# Altium schematic symbol library transistor-power.SCHLIB: 100 symbols
Pins are listed as number, name and electrical type; pins without a type are passive.

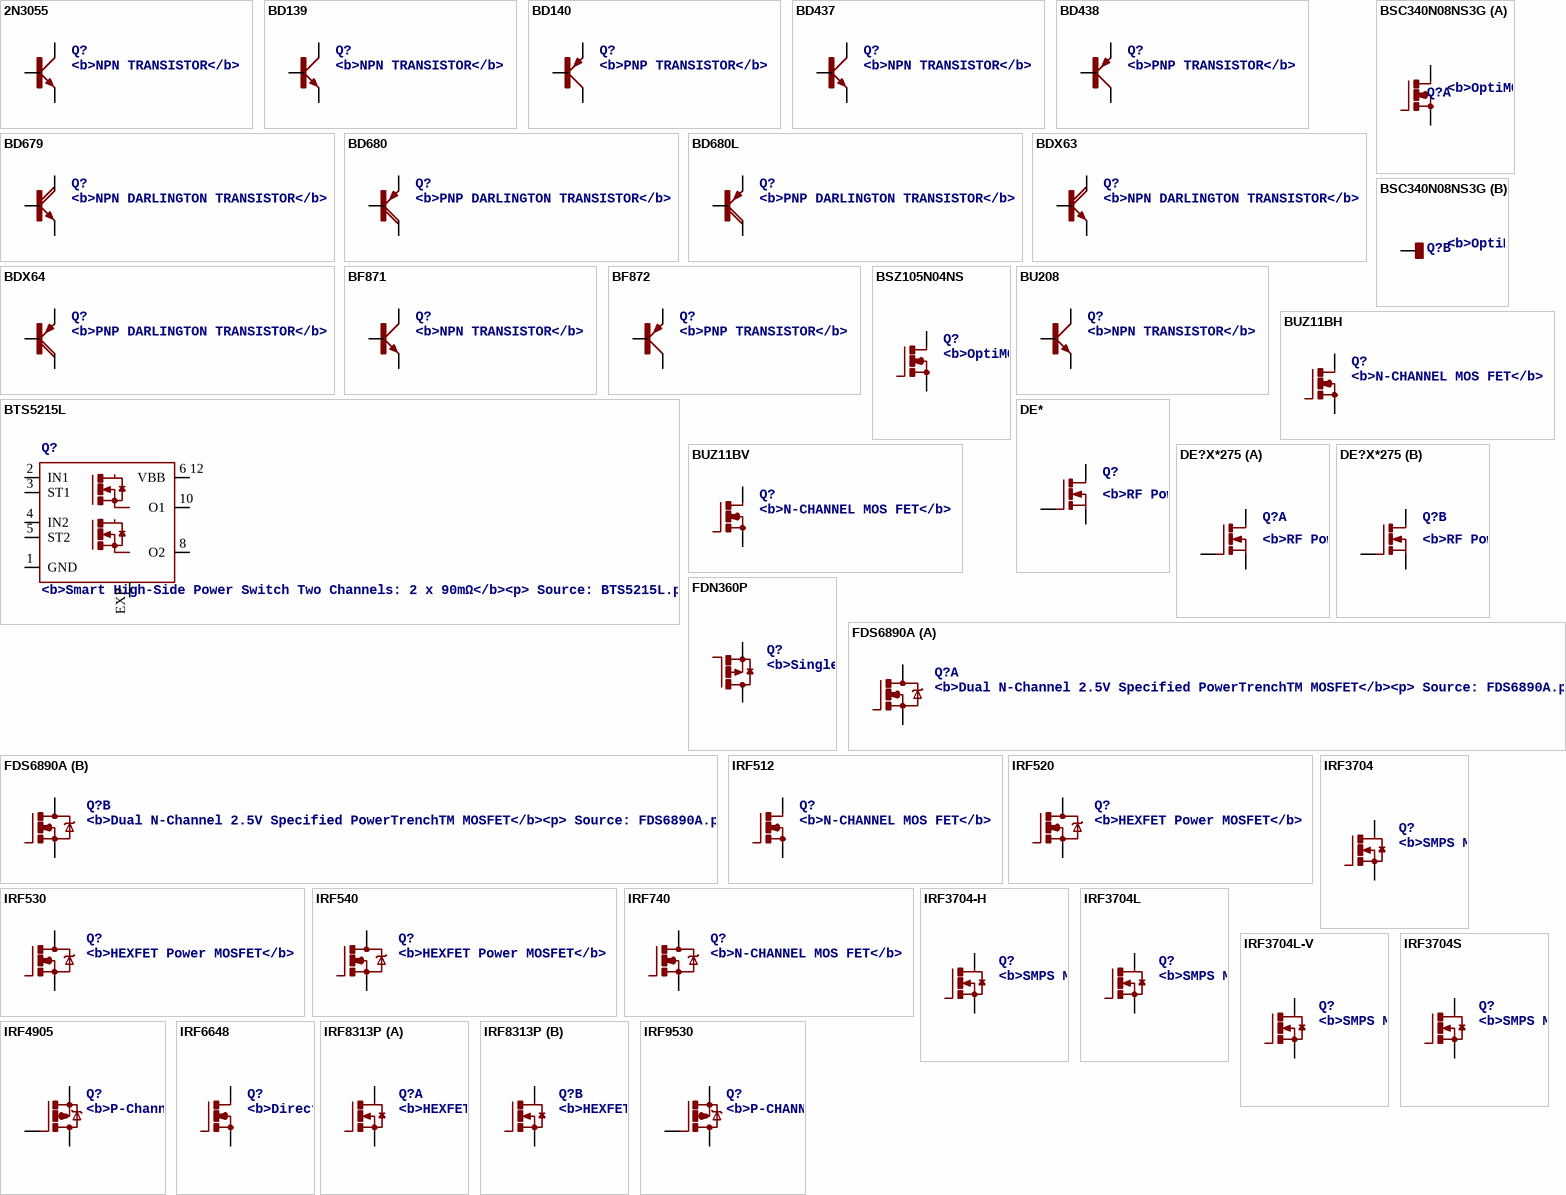
[diagram p0: symbols 2N3055 to IRF9530]

## 2N3055
designator Q?, comment <b>NPN TRANSISTOR</b>
footprint TO3A
pins: B, C C1 C, E

## BD139
designator Q?, comment <b>NPN TRANSISTOR</b>
footprint TO126AV
pins: B, C, E

## BD140
designator Q?, comment <b>PNP TRANSISTOR</b>
footprint TO126AV
pins: B, C, E

## BD437
designator Q?, comment <b>NPN TRANSISTOR</b>
footprint TO126AV
pins: B, C, E

## BD438
designator Q?, comment <b>PNP TRANSISTOR</b>
footprint TO126AV
pins: B, C, E

## BD679
designator Q?, comment <b>NPN DARLINGTON TRANSISTOR</b>
footprint TO126AV
pins: B, C, E

## BD680
designator Q?, comment <b>PNP DARLINGTON TRANSISTOR</b>
footprint TO126AV
pins: B, C, E

## BD680L
designator Q?, comment <b>PNP DARLINGTON TRANSISTOR</b>
footprint TO126AH
pins: B, C, E

## BDX63
designator Q?, comment <b>NPN DARLINGTON TRANSISTOR</b>
footprint TO3A
pins: B, C C1 C, E

## BDX64
designator Q?, comment <b>PNP DARLINGTON TRANSISTOR</b>
footprint TO3A
pins: B, C C1 C, E

## BF871
designator Q?, comment <b>NPN TRANSISTOR</b>
footprint TO202AH
pins: 1 B, 2 C, 3 E

## BF872
designator Q?, comment <b>PNP TRANSISTOR</b>
footprint TO202AH
pins: 1 E, 2 C, 3 B

## BSC340N08NS3G
designator Q?, comment <b>OptiMOS TM 3 Power-Transistor</b><p> / BSC340N08NS3 G<br> / Source: <a href="http://www.infineon.com/dgdl/BSC340N08NS3G_rev2.4.pdf?folderId=db3a304313b8b5a60113cee8763b02d7&fileId=db3a30431add1d95011ae81c21f2563a"> Data sheet </a>
footprint PG-TDSON-8
part A pins: 1 2 3 S, 4 G, 5 6 7 8 D
part B pins: TH

## BSZ105N04NS
designator Q?, comment <b>OptiMOS (TM)3 Power-Transistor</b> N-Channel, Normal level<p> / Source : <a href="http://www.infineon.com/dgdl/BSZ105N04NSG_rev1.1.pdf?folderId=db3a3043156fd5730115c7d50620107c&fileId=db3a30431689f4420116c485c67f084e"> Data sheet </a>
footprint PG-TDSON-8
pins: 1 2 3 S, 4 G, 5 6 7 8 TH D

## BTS5215L
designator Q?, comment <b>Smart High-Side Power Switch Two Channels: 2 x 90mΩ</b><p> / Source: BTS5215L.pdf
footprint PG-DSO-12-9
pins: 1 GND (power), 2 IN1, 3 ST1, 4 IN2, 5 ST2, 6 12 VBB (power), 8 O2, 10 O1, EXP

## BU208
designator Q?, comment <b>NPN TRANSISTOR</b>
footprint TO3A
pins: B, C C1 C, E

## BUZ11BH
designator Q?, comment <b>N-CHANNEL MOS FET</b>
footprint TO220BH
pins: D, G, S

## BUZ11BV
designator Q?, comment <b>N-CHANNEL MOS FET</b>
footprint TO220BV
pins: D, G, S

## DE*
designator Q?, comment <b>RF Power MOSFET</b> DE-SERIES</b><p> / Source: <a href="http://www.ixysrf.com/pdf/switch_mode/appnotes/2de_series_intro.pdf"> Data sheet </a><br> / &lt;www.directedenergy.com&gt;
footprint DE275
pins: D, G, SD1 SD2 SG1 SG2 SG1

## DE?X*275
designator Q?, comment <b>RF Power MOSFET</b> Common Source Push-Pull Pair<p> / N-Channel Enhancement Mode<br> / Source: <a href="http://ixysrf.com/pdf/switch_mode/de275x2_501n16a.pdf"> Data sheet </a>
footprint DE_X
part A pins: D1 D, G1 G, SD1 SG1 SG1
part B pins: D2 D, G2 G, SD2 SG2 SG1

## FDN360P
designator Q?, comment <b>Single P-Channel, PowerTrench (R) MOSFET</b><p> / Source: http://www.fairchildsemi.com/ds/FD/FDN360P.pdf
footprint SUPER-SOT3
pins: 1 G, 2 S, 3 D

## FDS6890A
designator Q?, comment <b>Dual N-Channel 2.5V Specified PowerTrenchTM MOSFET</b><p> / Source: FDS6890A.pdf
footprint M08A
part A pins: 1 S, 2 G, 7 8 D
part B pins: 3 S, 4 G, 5 6 D

## IRF512
designator Q?, comment <b>N-CHANNEL MOS FET</b>
footprint TO220BV
pins: D, G, S

## IRF520
designator Q?, comment <b>HEXFET Power MOSFET</b>
footprint TO220BV
pins: D, G, S

## IRF530
designator Q?, comment <b>HEXFET Power MOSFET</b>
footprint TO220BV
pins: D, G, S

## IRF540
designator Q?, comment <b>HEXFET Power MOSFET</b>
footprint TO220BV
pins: D, G, S

## IRF740
designator Q?, comment <b>N-CHANNEL MOS FET</b>
footprint TO220BV
pins: D, G, S

## IRF3704
designator Q?, comment <b>SMPS MOSFET</b><p> / HEXFET® Power MOSFET<br> / Source: http://www.irf.com/product-info/datasheets/data/irf3704.pdf
footprint TO220AH
pins: B G, C D, E S

## IRF3704-H
designator Q?, comment <b>SMPS MOSFET</b><p> / HEXFET® Power MOSFET<br> / Source: http://www.irf.com/product-info/datasheets/data/irf3704.pdf
footprint TO220BH
pins: D, G, S

## IRF3704L
designator Q?, comment <b>SMPS MOSFET</b><p> / HEXFET® Power MOSFET<br> / Source: http://www.irf.com/product-info/datasheets/data/irf3704.pdf
footprint TO262-H
pins: 1 G, 2 D, 3 S

## IRF3704L-V
designator Q?, comment <b>SMPS MOSFET</b><p> / HEXFET® Power MOSFET<br> / Source: http://www.irf.com/product-info/datasheets/data/irf3704.pdf
footprint TO262-V
pins: 1 G, 2 D, 3 S

## IRF3704S
designator Q?, comment <b>SMPS MOSFET</b><p> / HEXFET® Power MOSFET<br> / Source: http://www.irf.com/product-info/datasheets/data/irf3704.pdf
footprint D2PACK
pins: 1 G, 2 D, 3 S

## IRF4905
designator Q?, comment <b>P-Channel HEXFET® Power MOSFET</b><p> / RDS(on)= 0.02 Ohm, ID = -74A<br> / Source: http://www.irf.com/product-info/datasheets/data/irf4905pbf.pdf
footprint TO220BH
pins: D, G, S

## IRF6648
designator Q?, comment <b>DirectFET Power MOSFET</b><p> / Source: http://www.irf.com/product-info/datasheets/data/irf6648.pdf
footprint DIRECTFET
pins: D@1 D@2 D@3 D@4 D, G, S@1 S@2 S

## IRF8313P
designator Q?, comment <b>HEXFET(R) Power MOSFET</b><p> / Source: <a href="http://www.irf.com/product-info/datasheets/data/irf8313pbf.pdf"> Data sheet </a>
footprint SO-08
part A pins: 3 S, 4 G, 5 6 D
part B pins: 1 S, 2 G, 7 8 D

## IRF9530
designator Q?, comment <b>P-CHANNEL HEXFET POWER-MOS-FET</b><p> / Source: http://www.irf.com/product-info/datasheets/data/irf9530.pdf
footprint TO220BV
pins: D, G, S

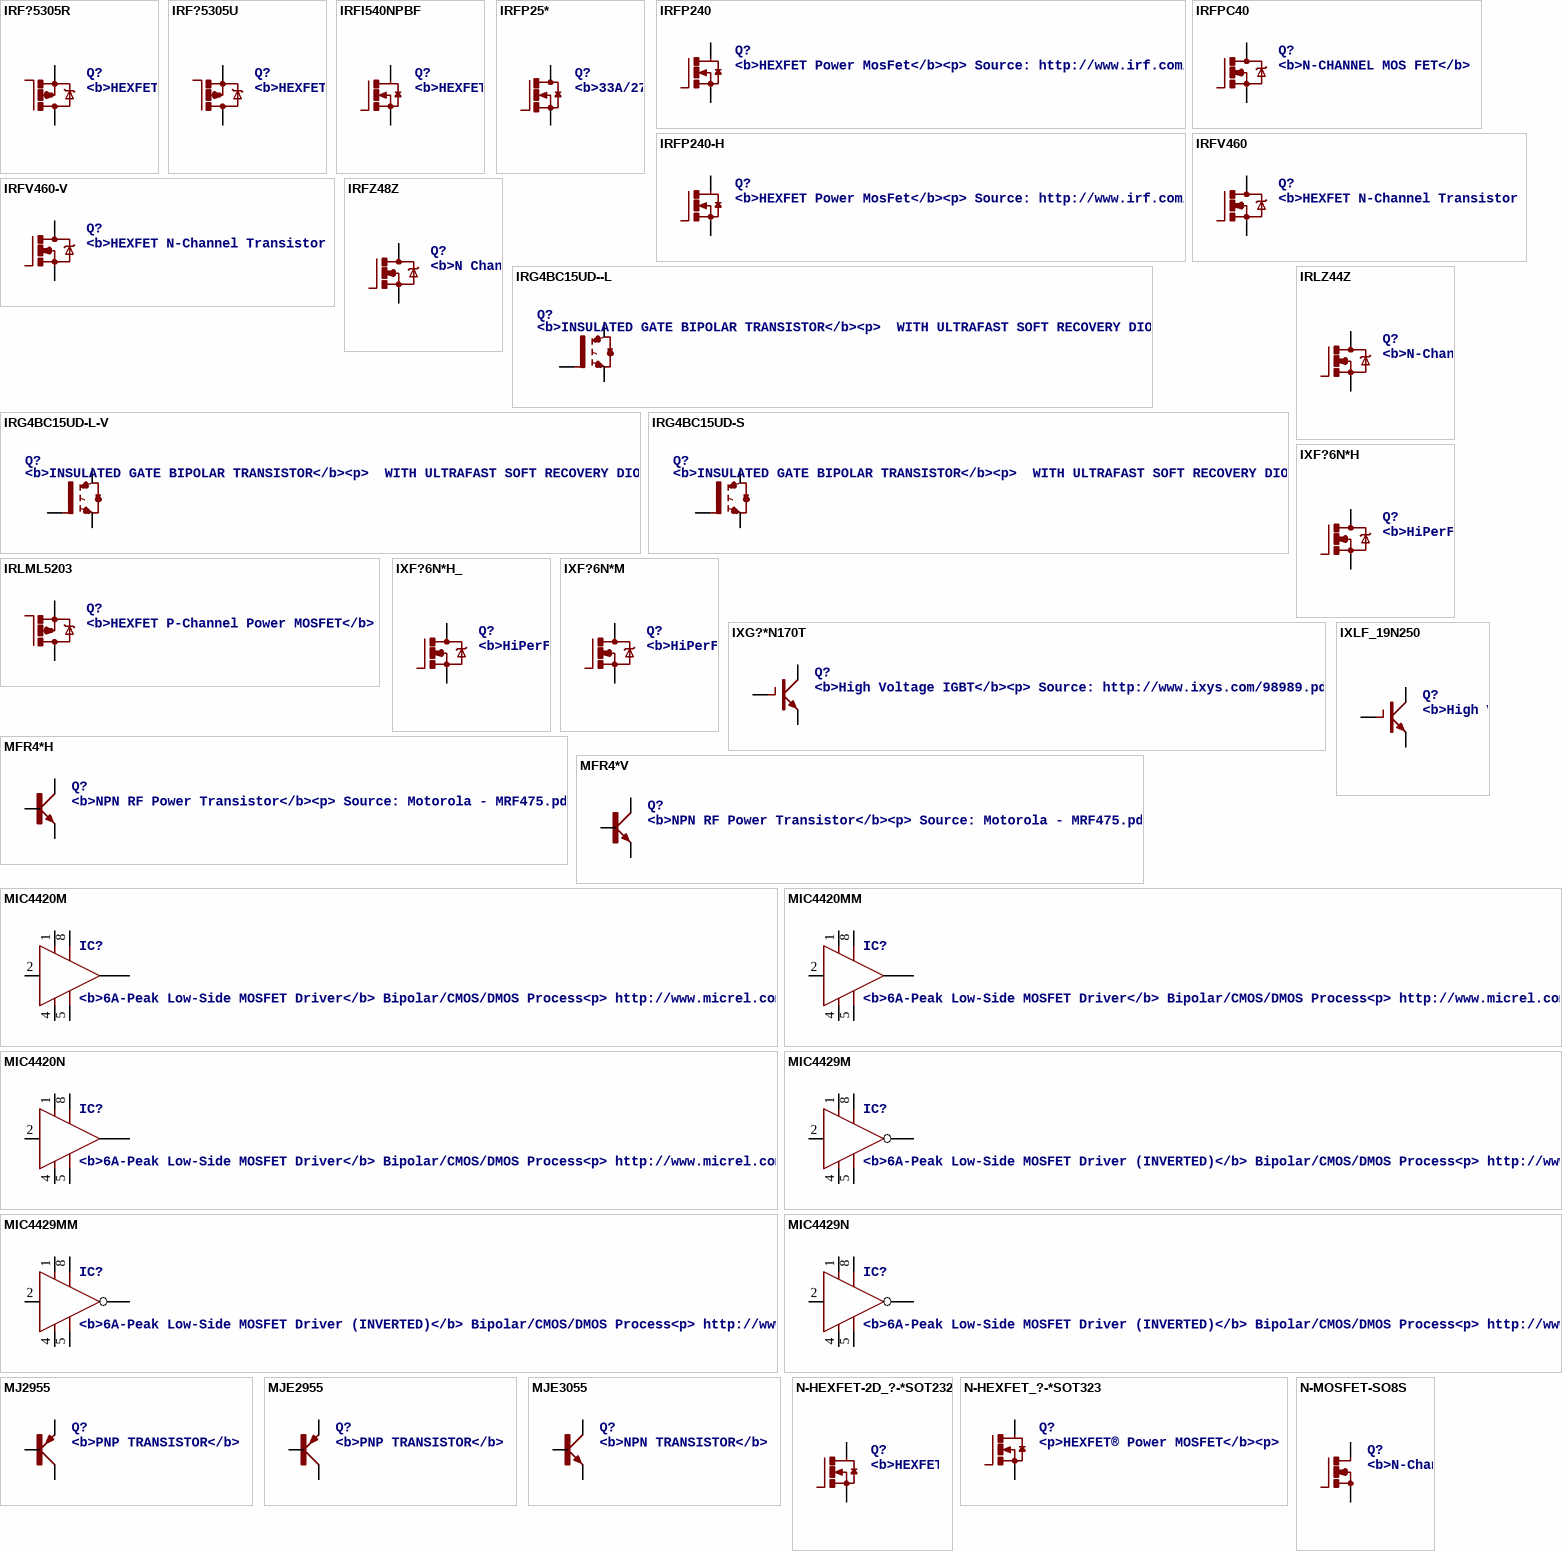
[diagram p1: symbols IRF?5305R to N-MOSFET-SO8S]

## IRF?5305R
designator Q?, comment <b>HEXFET Power MOSFET</b><p> / Source: http://www.irf.com/product-info/datasheets/data/irfr5305pbf.pdf
footprint D-PAK_TO252AA
pins: 1 G, 3 S, 4 D

## IRF?5305U
designator Q?, comment <b>HEXFET Power MOSFET</b><p> / Source: http://www.irf.com/product-info/datasheets/data/irfr5305pbf.pdf
footprint I-PAK_TO251AA
pins: 1 G, 2 D, 3 S

## IRFI540NPBF
designator Q?, comment <b>HEXFET Power MOISFET</b><p> / VDSS = 100V, RDS(on) = 0.052 Ohm, ID = 20A, VGS(th) = 2.0 -- 4.0V<br> / Source: http://www.irf.com/product-info/datasheets/data/irfi540npbf.pdf
footprint TO220BH
pins: D, G, S

## IRFP25*
designator Q?, comment <b>33A/27A, 200V/150V, 0.085/0.012 Ohm, N-Channel Power MOSFET</b><p> / Source: Fairchild Semiconductor Corporation
footprint TO-247AD-V
pins: D, G, S

## IRFP240
designator Q?, comment <b>HEXFET Power MosFet</b><p> / Source: http://www.irf.com/
footprint TO247BV
pins: D, G, S

## IRFP240-H
designator Q?, comment <b>HEXFET Power MosFet</b><p> / Source: http://www.irf.com/
footprint TO247BH
pins: D, G, S

## IRFPC40
designator Q?, comment <b>N-CHANNEL MOS FET</b>
footprint TO247BV
pins: D, G, S

## IRFV460
designator Q?, comment <b>HEXFET N-Channel Transistor
footprint TO258AA
pins: 1-D D, 2-S S, 3-G G

## IRFV460-V
designator Q?, comment <b>HEXFET N-Channel Transistor
footprint TO258AA-V
pins: 1-D D, 2-S S, 3-G G

## IRFZ48Z
designator Q?, comment <b>N Channel HEXFET® Power MOSFET</b> Logic Level<p> / Source: http://www.irf.com/product-info/datasheets/data/irfz48z.pdf
footprint TO220BH
pins: D, G, S

## IRG4BC15UD--L
designator Q?, comment <b>INSULATED GATE BIPOLAR TRANSISTOR</b><p> / WITH ULTRAFAST SOFT RECOVERY DIODE
footprint TO262-V
pins: 1 G, 2 C, 3 E

## IRG4BC15UD-L-V
designator Q?, comment <b>INSULATED GATE BIPOLAR TRANSISTOR</b><p> / WITH ULTRAFAST SOFT RECOVERY DIODE
footprint TO262-H
pins: 1 G, 2 C, 3 E

## IRG4BC15UD-S
designator Q?, comment <b>INSULATED GATE BIPOLAR TRANSISTOR</b><p> / WITH ULTRAFAST SOFT RECOVERY DIODE
footprint D2PACK
pins: 1 G, 2 C, 3 E

## IRLML5203
designator Q?, comment <b>HEXFET P-Channel Power MOSFET</b>
footprint MICRO3
pins: 1 G, 2 S, 3 D

## IRLZ44Z
designator Q?, comment <b>N-Channel HEXFET® Power MOSFET</b> Logic Level<p> / AUTOMOTIVE MOSFET<br> / Source: http://www.irf.com/product-info/datasheets/data/irlz44zpbf.pdf
footprint TO220BH
pins: D, G, S

## IXF?6N*H
designator Q?, comment <b>HiPerFET (TM)  Power MOSFET</b><p> / N-Channel Enhancement Mode HDMOS Family<br> / Source: http://www.ixys.com/91529.pdf
footprint TO-247AD-V
pins: D, G, S

## IXF?6N*H_
designator Q?, comment <b>HiPerFET (TM)  Power MOSFET</b><p> / N-Channel Enhancement Mode HDMOS Family<br> / Source: http://www.ixys.com/91529.pdf
footprint TO-247AD-H
pins: D, G, S

## IXF?6N*M
designator Q?, comment <b>HiPerFET (TM)  Power MOSFET</b><p> / N-Channel Enhancement Mode HDMOS Family<br> / Source: http://www.ixys.com/91529.pdf
footprint TO204
pins: D, G, S

## IXG?*N170T
designator Q?, comment <b>High Voltage IGBT</b><p> / Source: http://www.ixys.com/98989.pdf
footprint TO268
pins: C@1 C@2 C, E, G

## IXLF_19N250
designator Q?, comment <b>High Voltage IGBT</b> High Voltage ISOPLUS i4-PAC(TM)<p> / Source: http://www.ixys.com/l414.pdf
footprint ISOPLUS_I4
pins: 1 G, 2 E, 5 C

## MFR4*H
designator Q?, comment <b>NPN RF Power Transistor</b><p> / Source: Motorola - MRF475.pdf
footprint TO220AH
pins: B, C, E

## MFR4*V
designator Q?, comment <b>NPN RF Power Transistor</b><p> / Source: Motorola - MRF475.pdf
footprint TO220AV
pins: B, C, E

## MIC4420M
designator IC?, comment <b>6A-Peak Low-Side MOSFET Driver</b> Bipolar/CMOS/DMOS Process<p> / http://www.micrel.com/_PDF/mic4420.pdf
footprint SO-08
pins: 1 VS (power), 2 IN, 4 GND (power), 5 GND1 (power), 6 OUT, 7 OUT, 8 VS1 (power)

## MIC4420MM
designator IC?, comment <b>6A-Peak Low-Side MOSFET Driver</b> Bipolar/CMOS/DMOS Process<p> / http://www.micrel.com/_PDF/mic4420.pdf
footprint MSOP8
pins: 1 VS (power), 2 IN, 4 GND (power), 5 GND1 (power), 6 OUT, 7 OUT, 8 VS1 (power)

## MIC4420N
designator IC?, comment <b>6A-Peak Low-Side MOSFET Driver</b> Bipolar/CMOS/DMOS Process<p> / http://www.micrel.com/_PDF/mic4420.pdf
footprint DIL08
pins: 1 VS (power), 2 IN, 4 GND (power), 5 GND1 (power), 6 OUT, 7 OUT, 8 VS1 (power)

## MIC4429M
designator IC?, comment <b>6A-Peak Low-Side MOSFET Driver (INVERTED)</b> Bipolar/CMOS/DMOS Process<p> / http://www.micrel.com/_PDF/mic4420.pdf
footprint SO-08
pins: 1 VS (power), 2 IN, 4 GND (power), 5 GND1 (power), 6 OUT, 7 OUT, 8 VS1 (power)

## MIC4429MM
designator IC?, comment <b>6A-Peak Low-Side MOSFET Driver (INVERTED)</b> Bipolar/CMOS/DMOS Process<p> / http://www.micrel.com/_PDF/mic4420.pdf
footprint MSOP8
pins: 1 VS (power), 2 IN, 4 GND (power), 5 GND1 (power), 6 OUT, 7 OUT, 8 VS1 (power)

## MIC4429N
designator IC?, comment <b>6A-Peak Low-Side MOSFET Driver (INVERTED)</b> Bipolar/CMOS/DMOS Process<p> / http://www.micrel.com/_PDF/mic4420.pdf
footprint DIL08
pins: 1 VS (power), 2 IN, 4 GND (power), 5 GND1 (power), 6 OUT, 7 OUT, 8 VS1 (power)

## MJ2955
designator Q?, comment <b>PNP TRANSISTOR</b>
footprint TO3A
pins: B, C C1 C, E

## MJE2955
designator Q?, comment <b>PNP TRANSISTOR</b>
footprint TO220AV
pins: B, C, E

## MJE3055
designator Q?, comment <b>NPN TRANSISTOR</b>
footprint TO220AV
pins: B, C, E

## N-HEXFET-2D_?-*SOT232
designator Q?, comment <b>HEXFET® Power MOSFET</b> 2 Drain connects<p> / http://www.irf.com/product-info/datasheets/data/irll014n.pdf
footprint SOT223
pins: 1 G, 2 4 D, 3 S

## N-HEXFET_?-*SOT323
designator Q?, comment <p>HEXFET® Power MOSFET</b><p>
footprint SOT223
pins: 1 G, 3 S, 4 D

## N-MOSFET-SO8S
designator Q?, comment <b>N-Channel MOSFET</b><p> / Example:<br> / FDS7760A; N-Channel Logic Level PowerTrench® MOSFET<br> / FDS2572; N-Channel UltraFET® Trench MOSFET<br> / Source: www.fairchildsemi.com
footprint SO-08
pins: 1 2 3 S, 4 G, 5 6 7 8 D

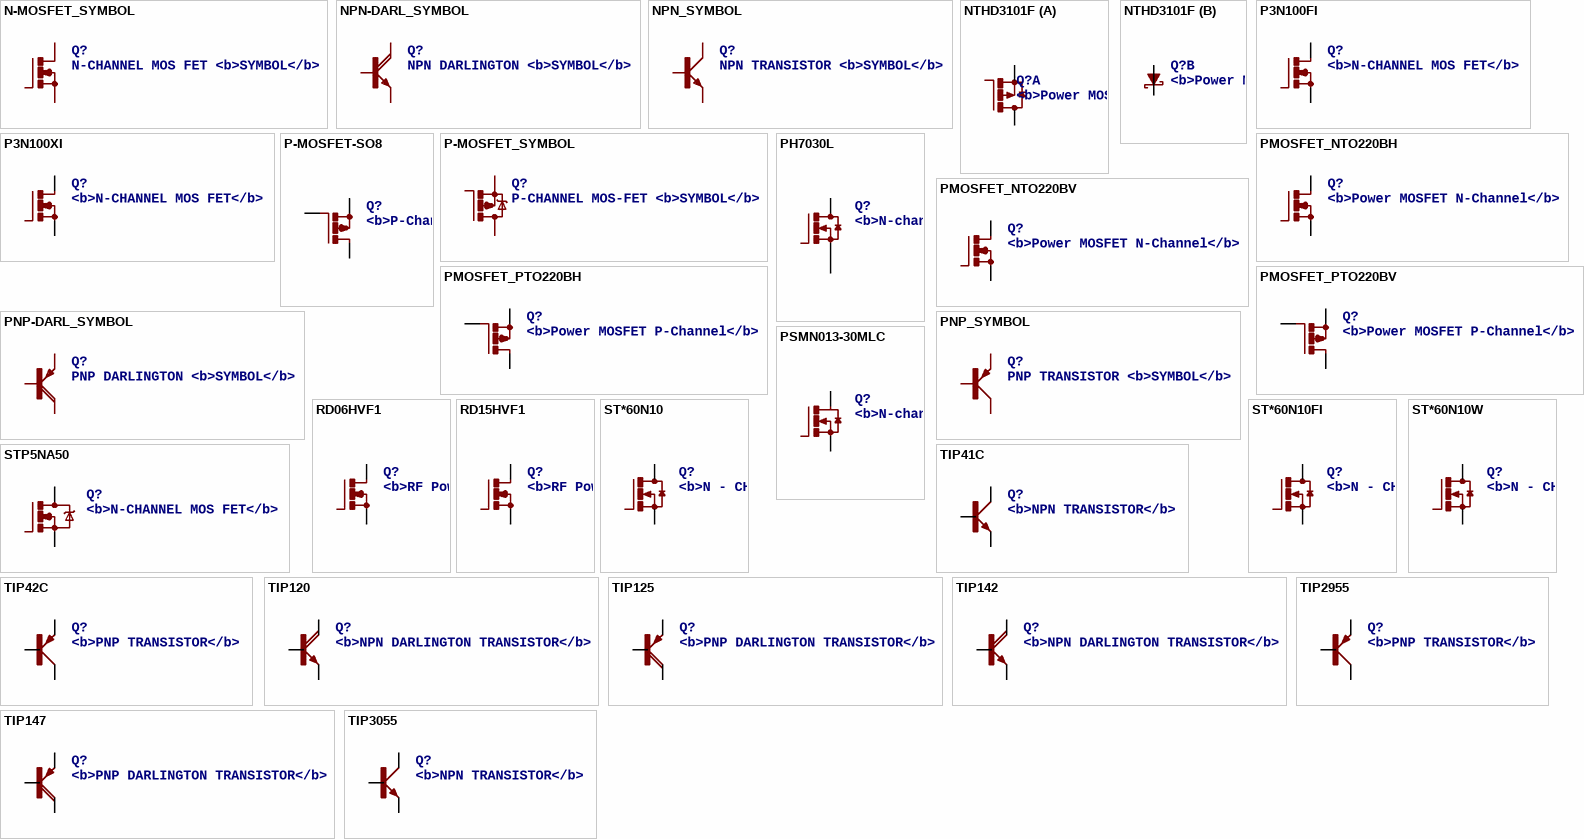
[diagram p2: symbols N-MOSFET_SYMBOL to TIP3055]

## N-MOSFET_SYMBOL
designator Q?, comment N-CHANNEL MOS FET <b>SYMBOL</b>

## NPN-DARL_SYMBOL
designator Q?, comment NPN DARLINGTON <b>SYMBOL</b>

## NPN_SYMBOL
designator Q?, comment NPN TRANSISTOR <b>SYMBOL</b>

## NTHD3101F
designator Q?, comment <b>Power MOSFET and Schottky Diode</b><p> / -20 V, FETKY (TM), P-Channel, 4.4 A, with 4.1 A Schottky Barrier Diode, ChipFET (TM)<br> / Source: http://www.onsemi.com/pub/Collateral/NTHD3101F-D.PDF
footprint CHIPFET-1206A
part A pins: 3 S, 4 G, 5 6 D
part B pins: 1 2 A, 7 8 C

## P3N100FI
designator Q?, comment <b>N-CHANNEL MOS FET</b>
footprint IW220B
pins: D, G, S

## P3N100XI
designator Q?, comment <b>N-CHANNEL MOS FET</b>
footprint IW221
pins: D, G, S

## P-MOSFET-SO8
designator Q?, comment <b>P-Channel MOSFET</b><p> / Example:<br> / FDS4435A; P-Channel Logic Level PowerTrench® MOSFET<br> / FDS4465; P-Channel 1.8V Specified PowerTrench® MOSFET<br> / Source: www.fairchildsemi.com
footprint SO-08
pins: 1 2 3 S, 4 G, 5 6 7 8 D

## P-MOSFET_SYMBOL
designator Q?, comment P-CHANNEL MOS-FET <b>SYMBOL</b>

## PH7030L
designator Q?, comment <b>N-channel TrenchMOS (TM) logic level FET</b><p> / Source: http://www.nxp.com/acrobat_download/datasheets/PH7030L_4.pdf
footprint SOT669
pins: 1 S, 2 S, 3 S, 4 G, MB D

## PMOSFET_NTO220BH
designator Q?, comment <b>Power MOSFET N-Channel</b>
footprint TO220BH
pins: D, G, S

## PMOSFET_NTO220BV
designator Q?, comment <b>Power MOSFET N-Channel</b>
footprint TO220BV
pins: D, G, S

## PMOSFET_PTO220BH
designator Q?, comment <b>Power MOSFET P-Channel</b>
footprint TO220BH
pins: D, G, S

## PMOSFET_PTO220BV
designator Q?, comment <b>Power MOSFET P-Channel</b>
footprint TO220BV
pins: D, G, S

## PNP-DARL_SYMBOL
designator Q?, comment PNP DARLINGTON <b>SYMBOL</b>

## PNP_SYMBOL
designator Q?, comment PNP TRANSISTOR <b>SYMBOL</b>

## PSMN013-30MLC
designator Q?, comment <b>N-channel 30 V 13.6 mΩ logic level MOSFET</b><p> / NextPower Technology<br> / Source: <a href="http://www.nxp.com/documents/data_sheet/PSMN013-30MLC.pdf"> Data sheet </a><br> / PSMN013-30MLC © NXP B.V. 2012. All rights reserved.
MPN: PSMN013-30MLC; OC_FARNELL: 2115260; OC_NEWARK: 05W5709
footprint LFPAK33
pins: 1 2 3 S, 4 G, MB D

## RD06HVF1
designator Q?, comment <b>RF Power MOSFET Transistor 175MHz,6W</b><p> / Source: MITSUBISHI .. rd06hvf1.pdf
footprint RD06HVF1
pins: 1 G, 2 S, 3 D

## RD15HVF1
designator Q?, comment <b>RF Power MOSFET Transistor 175MHz15W 520MHz,15W</b><p> / Source: MITSUBISHI .. RD15HVF1   a.pdf
footprint RD06HVF1
pins: 1 G, 2 S, 3 D

## ST*60N10
designator Q?, comment <b>N - CHANNEL ENHANCEMENT MODE POWER MOS TRANSISTOR</b><p> / Source: SGS-THOMSON .. STW60N10  1.pdf
footprint TO218BV
pins: D, G, S

## ST*60N10FI
designator Q?, comment <b>N - CHANNEL ENHANCEMENT MODE POWER MOS TRANSISTOR</b><p> / Source: SGS-THOMSON .. STW60N10  1.pdf
footprint ISOWATT218
pins: D, G, S

## ST*60N10W
designator Q?, comment <b>N - CHANNEL ENHANCEMENT MODE POWER MOS TRANSISTOR</b><p> / Source: SGS-THOMSON .. STW60N10  1.pdf
footprint TO-247AD-V
pins: D, G, S

## STP5NA50
designator Q?, comment <b>N-CHANNEL MOS FET</b>
footprint TO220BV
pins: D, G, S

## TIP41C
designator Q?, comment <b>NPN TRANSISTOR</b>
footprint TO220AV
pins: B, C, E

## TIP42C
designator Q?, comment <b>PNP TRANSISTOR</b>
footprint TO220AV
pins: B, C, E

## TIP120
designator Q?, comment <b>NPN DARLINGTON TRANSISTOR</b>
footprint TO220AH
pins: B, C, E

## TIP125
designator Q?, comment <b>PNP DARLINGTON TRANSISTOR</b>
footprint TO220AH
pins: B, C, E

## TIP142
designator Q?, comment <b>NPN DARLINGTON TRANSISTOR</b>
footprint SOT93
pins: B, C, E

## TIP147
designator Q?, comment <b>PNP DARLINGTON TRANSISTOR</b>
footprint SOT93
pins: B, C, E

## TIP2955
designator Q?, comment <b>PNP TRANSISTOR</b>
footprint TOP3AV
pins: B, C, E

## TIP3055
designator Q?, comment <b>NPN TRANSISTOR</b>
footprint TOP3AV
pins: B, C, E